# EAGLE library part ADXL362 (library adxl362)
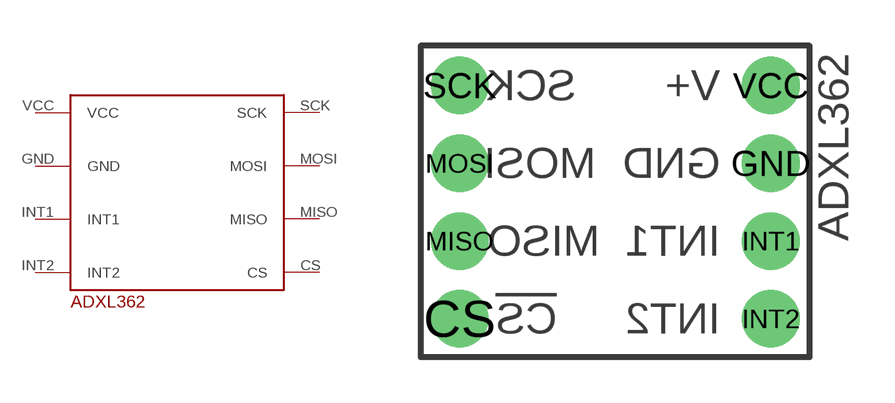
[diagram p0: symbol with the pads of ADXL362; footprint ADXL362]

Designator prefix -

## ADXL362  [ADXL362]
CS  CS
GND  GND
INT1  INT1
INT2  INT2
MISO  MISO
MOSI  MOSI
SCK  SCK
VCC  VCC

## Footprint ADXL362 (pad centres in mm)
drill 1.016 pad 1.88: CS 1.27,1.27; GND 11.43,6.35; INT1 11.43,3.81; INT2 11.43,1.27; MISO 1.27,3.81; MOSI 1.27,6.35; SCK 1.27,8.89; VCC 11.43,8.89